# Altium schematic symbol library SCH_LIB.SchLib: 68 symbols
Pins are listed as number, name and electrical type; pins without a type are passive.

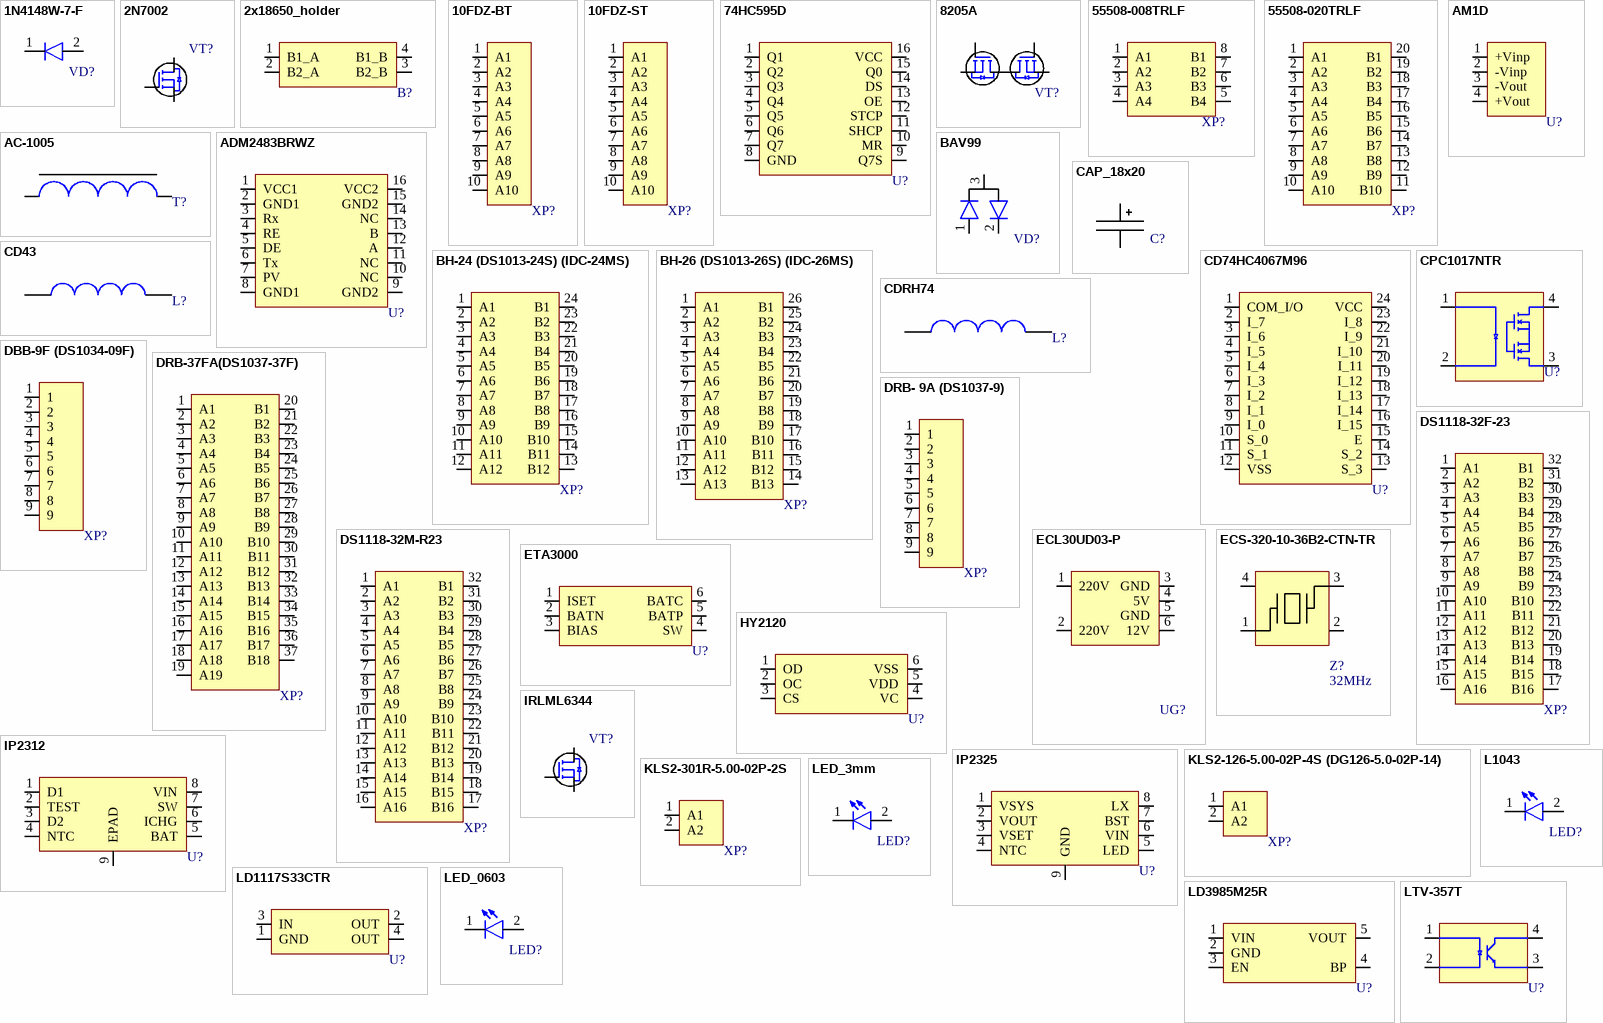
[diagram p0: symbols 1N4148W-7-F to LTV-357T]

## 1N4148W-7-F
designator VD?  (value not drawn)
Diodes - General Purpose, Power, Switching SURFACE MOUNT FAST SWITCHING DIODE; Manufacturer: Diodes Incorporated; Datasheet: https://www.diodes.com/assets/Datasheets/BAV16W_1N4148W.pdf; HelpURL: https://eu.mouser.com/ProductDetail/Diodes-Incorporated/1N4148W-7-F?qs=LHX0FizJzg7Ae9ZM8LTAWw%3D%3D; Package/Case: SOD-123; Product Category: Diodes; Value: 1N4148W-7-F
footprint SOD-123
pins: 1, 2

## 2N7002
designator VT?, comment 2N7002(NX7002AK)  (value not drawn)
MOSFET N-CHANNEL 60V 115mA; Manufacturer: Fairchild; Datasheet: https://eu.mouser.com/datasheet/2/308/NDS7002A_D-1522662.pdf; HelpURL: https://eu.mouser.com/ProductDetail/onsemi-Fairchild/2N7002?qs=0dwsXDNhqlz66WJJhrTFjQ%3D%3D; Package/Case: SOT-23; Product Category: MOSFET; Analogue: NX7002AK; Value: 2N7002
footprint SOT-23-3
pins: 1 (power), 2 (power), 3 (power)

## 2x18650_holder
designator B?  (value not drawn)
18650 battery holder; Datasheet: https://aliexpress.ru/item/32370231319.html?spm=a2g2w.favourites.mywishlist.8.12044aa670bhdZ&sku_id=57294681151; HelpURL: https://aliexpress.ru/item/32370231319.html?spm=a2g2w.favourites.mywishlist.8.12044aa670bhdZ&sku_id=57294681151; Product Category: Battery holders; Value: 2x18650_holder
footprint 2x18650_holder
pins: 1 B1_A, 2 B2_A, 3 B2_B, 4 B1_B

## 10FDZ-BT
designator XP?  (value not drawn)
The FDZ connector, a Zero Insertion Force / (ZIF) connector, was developed to connect / FPC and membrane switch leads. This / combination of features allows greater / freedom in internal wiring designs. No / force is required to insert the leads. Once / inserted, the leads are securely held and / locked by moving the slide. The contact is / double-sided to ensure greater reliability.; Manufacturer: JST; Datasheet: https://static.chipdip.ru/lib/060/DOC000060454.pdf; HelpURL: https://www.chipdip.ru/product/10fdz-bt; Product Category: Connectors; Value: 10FDZ-BT
footprint 10FDZ-BT
pins: 1 A1, 2 A2, 3 A3, 4 A4, 5 A5, 6 A6, 7 A7, 8 A8, 9 A9, 10 A10

## 10FDZ-ST
designator XP?  (value not drawn)
The FDZ connector, a Zero Insertion Force / (ZIF) connector, was developed to connect / FPC and membrane switch leads. This / combination of features allows greater / freedom in internal wiring designs. No / force is required to insert the leads. Once / inserted, the leads are securely held and / locked by moving the slide. The contact is / double-sided to ensure greater reliability.; Manufacturer: JST; Datasheet: https://static.chipdip.ru/lib/060/DOC000060454.pdf; HelpURL: https://www.chipdip.ru/product/10fdz-st; Product Category: Connectors; Value: 10FDZ-ST
footprint 10FDZ-ST
pins: 1 A1, 2 A2, 3 A3, 4 A4, 5 A5, 6 A6, 7 A7, 8 A8, 9 A9, 10 A10

## 74HC595D
designator U?  (value not drawn)
Counter Shift Registers; Manufacturer: Nexperia; Datasheet: https://eu.mouser.com/datasheet/2/916/74HC_HCT595-1371408.pdf; HelpURL: https://eu.mouser.com/ProductDetail/Nexperia/74HC595D118?qs=P62ublwmbi8l0ry%252BN2uyHg%3D%3D; Package/Case: SOIC-16; Product Category: Counter shift registers; Value: 74HC595D
footprint SOIC-16
pins: 1 Q1, 2 Q2, 3 Q3, 4 Q4, 5 Q5, 6 Q6, 7 Q7, 8 GND, 9 Q7S, 10 MR, 11 SHCP, 12 STCP, 13 OE, 14 DS, 15 Q0, 16 VCC (power)

## 8205A
designator VT?  (value not drawn)
MOSFET N-CHANNEL 20V 5A; Manufacturer: UMW; Datasheet: https://static.chipdip.ru/lib/303/DOC021303523.pdf; HelpURL: https://www.chipdip.by/product/8205a; Package/Case: SOT-23-6; Product Category: MOSFET; Value: 8205A
footprint SOT-23-6; pin to pad 2>2+5 5>2+5
pins: 1 (power), 2 (power), 3 (power), 4 (power), 5 (power), 6 (power)

## 55508-008TRLF
designator XP?  (value not drawn)
Board to Board, Receptacle, Surface Mount, Double row, 8 Positions, 2mm (0.079inch), Vertical.; Manufacturer: Amphenol FCI; Datasheet: https://cdn.amphenol-cs.com/media/wysiwyg/files/documentation/datasheet/boardwiretoboard/bwb_minitek2mm_receptacle.pdf; HelpURL: https://eu.mouser.com/ProductDetail/Amphenol-FCI/55508-008TRLF?qs=u4%252BeTlRBLCQJeJ23kDZ66A%3D%3D; Product Category: Connectors; Value: 55508-008TRLF
footprint 55508-008TRLF
pins: 1 A1, 2 A2, 3 A3, 4 A4, 5 B4, 6 B3, 7 B2, 8 B1

## 55508-020TRLF
designator XP?  (value not drawn)
Board to Board, Receptacle, Surface Mount, Double row, 20 Positions, 2mm (0.079inch), Vertical.; Manufacturer: Amphenol FCI; Datasheet: https://cdn.amphenol-cs.com/media/wysiwyg/files/documentation/datasheet/boardwiretoboard/bwb_minitek2mm_receptacle.pdf; HelpURL: https://eu.mouser.com/ProductDetail/Amphenol-FCI/55508-020TRLF?qs=u4%252BeTlRBLCTe691%252BtU6gFA%3D%3D; Product Category: Connectors; Value: 55508-020TRLF
footprint 55508-020TRLF
pins: 1 A1, 2 A2, 3 A3, 4 A4, 5 A5, 6 A6, 7 A7, 8 A8, 9 A9, 10 A10, 11 B10, 12 B9, 13 B8, 14 B7, 15 B6, 16 B5, 17 B4, 18 B3, 19 B2, 20 B1

## AC-1005
designator T?  (value not drawn)
Current Transformer, primary current: 5A; Manufacturer: Talema; Analogue: CST-1005(https://eu.mouser.com/datasheet/2/410/CST_1005-1892657.pdf); Datasheet: https://static.chipdip.ru/lib/884/DOC003884697.pdf; HelpURL: https://www.chipdip.ru/product/ac-1005; Product Category: Current transformers; Value: AC-1005
footprint AC-1005
pins: 1, 2

## ADM2483BRWZ
designator U?  (value not drawn)
Counter Shift Registers; Manufacturer: Analog Devices; Datasheet: https://static.chipdip.ru/lib/315/DOC011315784.pdf; HelpURL: https://www.chipdip.by/product/adm2483brwz-reel; Package/Case: SOIC-16; Product Category: Transceivers; Value: ADM2483BRWZ
footprint SOIC-16
pins: 1 VCC1, 2 GND1, 3 Rx, 4 RE, 5 DE, 6 Tx, 7 PV, 8 GND1, 9 GND2, 10 NC, 11 NC, 12 A, 13 B, 14 NC, 15 GND2, 16 VCC2 (power)

## AM1D
designator U?  (value not drawn)
DC-DC; Manufacturer: Aimtec; Datasheet: https://static.chipdip.ru/lib/744/DOC014744931.pdf; HelpURL: https://www.chipdip.by/product/am1d-0505sz; Package/Case: SIP; Product Category: Voltage regulators; Value: AM1D
footprint AM1D-0505SZ
pins: 1 +Vinp (power), 2 -Vinp (power), 3 -Vout (power), 4 +Vout (power)

## BAV99
designator VD?  (value not drawn)
High-speed switching diode; Manufacturer: Nexperia; Datasheet: https://eu.mouser.com/datasheet/2/916/BAV99_SER-1370693.pdf; HelpURL: https://eu.mouser.com/ProductDetail/Nexperia/BAV99235?qs=me8TqzrmIYWUP4h8SbZlfQ%3D%3D; Package/Case: SOT-23; Product Category: Diodes; Value: BAV99
footprint SOT-23-3
pins: 1, 2, 3

## BH-24 (DS1013-24S) (IDC-24MS)
designator XP?  (value not drawn)
Manufacturer: Connfly; Datasheet: https://static.chipdip.ru/lib/463/DOC002463525.pdf; HelpURL: https://www.chipdip.by/product/idc-24ms; Product Category: Connectors; Value: BH-24 (DS1013-24S) (IDC-24MS)
footprint BH-24 (DS1013-24S) (IDC-24MS)
pins: 1 A1, 2 A2, 3 A3, 4 A4, 5 A5, 6 A6, 7 A7, 8 A8, 9 A9, 10 A10, 11 A11, 12 A12, 13 B12, 14 B11, 15 B10, 16 B9, 17 B8, 18 B7, 19 B6, 20 B5, 21 B4, 22 B3, 23 B2, 24 B1

## BH-26 (DS1013-26S) (IDC-26MS)
designator XP?  (value not drawn)
Manufacturer: Connfly; Datasheet: https://static.chipdip.ru/lib/463/DOC002463525.pdf; HelpURL: https://www.chipdip.by/product/idc-26ms; Product Category: Connectors; Value: BH-26 (DS1013-26S) (IDC-26MS)
footprint BH-26 (DS1013-26S) (IDC-26MS)
pins: 1 A1, 2 A2, 3 A3, 4 A4, 5 A5, 6 A6, 7 A7, 8 A8, 9 A9, 10 A10, 11 A11, 12 A12, 13 A13, 14 B13, 15 B12, 16 B11, 17 B10, 18 B9, 19 B8, 20 B7, 21 B6, 22 B5, 23 B4, 24 B3, 25 B2, 26 B1

## CAP_18x20
designator C?  (value not drawn)
Aluminium Electrolytic Capacitors; Manufacturer: Vishay; Datasheet: https://www.vishay.com/docs/28499/172rlx.pdf; HelpURL: https://eu.mouser.com/ProductDetail/Vishay/MAL217255472E3?qs=sGAEpiMZZMvwFf0viD3Y3bXvgfG2gej7Mxr0TGrxzpUu%2FFwrHzVi9w%3D%3D; Package/Case: 18x20; Product Category: Aluminium Electrolytic Capacitors
footprint CAP 18x20
pins: 1, 2

## CD43
designator L?  (value not drawn)
SMD Power Inductor; Manufacturer: SUMIDA; Datasheet: https://products.sumida.com/products/pdf/CD43.pdf; HelpURL: https://aliexpress.ru/item/1005002090028747.html?sku_id=12000018707218161&spm=a2g2w.productlist.search_results.13.550c3fc1XziZsU; Product Category: Inductors
footprint CD43
pins: 1, 2

## CD74HC4067M96
designator U?  (value not drawn)
1 MHz, Low-Power Op Amp; Manufacturer: Texas Instruments; Datasheet: https://www.ti.com/general/docs/suppproductinfo.tsp?distId=26&gotoUrl=https://www.ti.com/lit/gpn/cd74hct4067; HelpURL: https://eu.mouser.com/ProductDetail/Texas-Instruments/CD74HC4067M96?qs=xFfolx0DHx0XT7d9xTTZBA%3D%3D; Package/Case: SOIC-24; Product Category: Multiplexers; Value: CD74HC4067M96
footprint SOIC-24
pins: 1 COM_I/O, 2 I_7, 3 I_6, 4 I_5, 5 I_4, 6 I_3, 7 I_2, 8 I_1, 9 I_0, 10 S_0, 11 S_1, 12 VSS (power), 13 S_3, 14 S_2, 15 E, 16 I_15, 17 I_14, 18 I_13, 19 I_12, 20 I_11, 21 I_10, 22 I_9, 23 I_8, 24 VCC (power)

## CDRH74
designator L?  (value not drawn)
SMD Power Inductor; Manufacturer: SUMIDA; Datasheet: https://radiokomponent.com.ua/pdf/trans/CDRH74.pdf; HelpURL: https://aliexpress.ru/item/1005004321960425.html?sku_id=12000028751500104&spm=a2g2w.productlist.search_results.7.529b6cc4mPaVds; Product Category: Inductors
footprint CDRH74
pins: 1, 2

## CPC1017NTR
designator U?  (value not drawn)
The CPC1017N is a miniature single-pole, / normally-open (1-Form-A) solid state relay in a / 4-pin SOP package that employs optically coupled / MOSFET technology to provide 1500Vrms of input / to output isolation.; Manufacturer: Littelfuse; Analogue: PRAB30S (KAQY214S); Datasheet: https://static.chipdip.ru/lib/529/DOC010529771.pdf; HelpURL: https://www.chipdip.by/product/cpc1017ntr; Package/Case: SOP-4; Product Category: Solid state relays; Value: CPC1017NTR
footprint SOP-4
pins: 1, 2, 3, 4

## DBB-9F (DS1034-09F)
designator XP?  (value not drawn)
Manufacturer: Connfly; Datasheet: https://static.chipdip.ru/lib/761/DOC000761659.pdf; HelpURL: https://www.chipdip.by/product/dbb-9f; Product Category: Connectors; Value: DBB-9F (DS1034-09F)
footprint DBB-9F (DS1034-09F)
pins: 1, 2, 3, 4, 5, 6, 7, 8, 9

## DRB-37FA(DS1037-37F)
designator XP?  (value not drawn)
Сonnector; Manufacturer: Connfly; Analogue: HARTING 09221326951(https://eu.mouser.com/ProductDetail/HARTING/09221326951?qs=Afqhj6cPmO9f0oVZo6yWiA%3D%3D); Datasheet: http://en.connfly.group/static/upload/file/pdf/DS1118.pdf; HelpURL: https://www.chipdip.by/product/din41612r-ds1118-32m-r23; Product Category: Connectors; Value: DRB-37FA(DS1037-37F)
footprint DRB-37FA(DS1037-37F)
pins: 1 A1, 2 A2, 3 A3, 4 A4, 5 A5, 6 A6, 7 A7, 8 A8, 9 A9, 10 A10, 11 A11, 12 A12, 13 A13, 14 A14, 15 A15, 16 A16, 17 A17, 18 A18, 19 A19, 20 B1, 21 B2, 22 B3, 23 B4, 24 B5, 25 B6, 26 B7, 27 B8, 28 B9, 29 B10, 30 B11, 31 B12, 32 B13, 33 B14, 34 B15, 35 B16, 36 B17, 37 B18

## DRB- 9A (DS1037-9)
designator XP?  (value not drawn)
Manufacturer: Connfly; Datasheet: https://static.chipdip.ru/lib/688/DOC012688837.pdf; HelpURL: https://www.chipdip.by/product/drb-9fa; Product Category: Connectors; Value: DRB- 9A (DS1037-9)
footprint DRB- 9A (DS1037-9)
pins: 1, 2, 3, 4, 5, 6, 7, 8, 9

## DS1118-32F-23
designator XP?  (value not drawn)
DIN 41612 Connector; Manufacturer: Connfly; Datasheet: https://static.chipdip.ru/lib/467/DOC001467857.pdf; HelpURL: https://www.chipdip.by/product/din41612-ds1118-32f-23; Product Category: Connectors; Value: DS1118-32F-23
footprint DS1118-32F-23
pins: 1 A1, 2 A2, 3 A3, 4 A4, 5 A5, 6 A6, 7 A7, 8 A8, 9 A9, 10 A10, 11 A11, 12 A12, 13 A13, 14 A14, 15 A15, 16 A16, 17 B16, 18 B15, 19 B14, 20 B13, 21 B12, 22 B11, 23 B10, 24 B9, 25 B8, 26 B7, 27 B6, 28 B5, 29 B4, 30 B3, 31 B2, 32 B1

## DS1118-32M-R23
designator XP?  (value not drawn)
DIN 41612 Connector; Manufacturer: Connfly; Analogue: HARTING 09221326951(https://eu.mouser.com/ProductDetail/HARTING/09221326951?qs=Afqhj6cPmO9f0oVZo6yWiA%3D%3D); Datasheet: http://en.connfly.group/static/upload/file/pdf/DS1118.pdf; HelpURL: https://www.chipdip.by/product/din41612r-ds1118-32m-r23; Product Category: Connectors; Value: DS1118-32M-R23
footprint DS1118-32M-R23
pins: 1 A1, 2 A2, 3 A3, 4 A4, 5 A5, 6 A6, 7 A7, 8 A8, 9 A9, 10 A10, 11 A11, 12 A12, 13 A13, 14 A14, 15 A15, 16 A16, 17 B16, 18 B15, 19 B14, 20 B13, 21 B12, 22 B11, 23 B10, 24 B9, 25 B8, 26 B7, 27 B6, 28 B5, 29 B4, 30 B3, 31 B2, 32 B1

## ECL30UD03-P
designator UG?  (value not drawn)
Switching Power Supplies AC/DC, DUAL, 30W, PCB MOUNT; Manufacturer: XP Power; Datasheet: https://www.xppower.com/portals/0/pdfs/SF_ECL30.pdf; HelpURL: https://eu.mouser.com/ProductDetail/XP-Power/ECL30UD03-P?qs=w%2Fv1CP2dgqp0UmTCbSDp0g%3D%3D; Product Category: Switching power supplies; Value: ECL30UD03-P
footprint ECL30-P (ECL30UD03-P)
pins: 1 220V, 2 220V, 3 GND (power), 4 5V, 5 GND, 6 12V

## ECS-320-10-36B2-CTN-TR
designator Z?  value 32MHz  (hidden comment: ECS-320-10-36B2-CTN-TR)
Crystal 32.000 MHz 10 pF +/-10 +/-20 -40 +85 C +/-2 ppm Max.; Manufacturer: ECS; Package/Case: 2520; HelpURL: https://eu.mouser.com/ProductDetail/ECS/ECS-320-10-36B2-CTN-TR?qs=QNEnbhJQKvbusIFiAH6chw%3D%3D; Temperature: -40...+85°C; Datasheet: https://eu.mouser.com/datasheet/2/122/ECX_2236B2-2400583.pdf; Product Category: Crystals
footprint OSC: 2520
pins: 1, 2 (power), 3, 4 (power)

## ETA3000
designator U?  (value not drawn)
Inductive cell balancer; Manufacturer: ETA; Datasheet: https://datasheetspdf.com/mobile/1424958/ETA/ETA3000/1; HelpURL: https://aliexpress.ru/item/1005002742533593.html?sku_id=12000021935942334; Package/Case: SOT-23-6; Product Category: Battery balancers; Value: ETA3000
footprint SOT-23-6
pins: 1 ISET, 2 BATN, 3 BIAS, 4 SW, 5 BATP, 6 BATC

## HY2120
designator U?  (value not drawn)
2-cell lithium-ion/lithium polymer rechargeable battery / protection; Manufacturer: HYCON; Datasheet: https://static.chipdip.ru/lib/671/DOC012671868.pdf; HelpURL: https://aliexpress.ru/item/32858079670.html?sku_id=65323825149&spm=a2g2w.productlist.search_results.5.6e4d5adf5VsdVe; Package/Case: SOT-23-6; Product Category: Battery protection; Value: HY2120
footprint SOT-23-6
pins: 1 OD, 2 OC, 3 CS, 4 VC, 5 VDD, 6 VSS

## IP2312
designator U?  (value not drawn)
1s charge module; Manufacturer: INJOINIC; Datasheet: https://datasheet.lcsc.com/lcsc/2304140030_INJOINIC-IP2312-4V35_C605433.pdf; HelpURL: https://aliexpress.ru/item/1005006314271382.html?spm=a2g2w.favourites.mywishlist.41.12044aa670bhdZ&sku_id=12000036725210626; Package/Case: ESOP-8; Product Category: Charge modules; Value: IP2312
footprint ESOP-8
pins: 1 D1, 2 TEST, 3 D2, 4 NTC, 5 BAT, 6 ICHG, 7 SW, 8 VIN, 9 EPAD

## IP2325
designator U?  (value not drawn)
2s charge Module; Manufacturer: INJOINIC; Datasheet: http://www.injoinic.com/wwwroot/uploads/files/20230913/d8e5944686d69fa501fe83e437133f8d.pdf; HelpURL: https://aliexpress.ru/item/1005005892683023.html?sku_id=12000034732384666; Package/Case: ESOP-8; Product Category: Charge modules; Value: IP2325
footprint ESOP-8
pins: 1 VSYS, 2 VOUT, 3 VSET, 4 NTC, 5 LED, 6 VIN, 7 BST, 8 LX, 9 GND

## IRLML6344
designator VT?  (value not drawn)
MOSFET N-CHANNEL 30V 5A; Manufacturer: Fairchild; Analogue: NX7002AK; Datasheet: https://static.chipdip.ru/lib/015/DOC024015069.pdf; HelpURL: https://eu.mouser.com/ProductDetail/onsemi-Fairchild/2N7002?qs=0dwsXDNhqlz66WJJhrTFjQ%3D%3D; Package/Case: SOT-23; Product Category: MOSFET; Value: IRLML6344
footprint SOT-23-3
pins: 1 (power), 2 (power), 3 (power)

## KLS2-126-5.00-02P-4S (DG126-5.0-02P-14)
designator XP?  (value not drawn)
Manufacturer: KLS; Datasheet: https://static.chipdip.ru/lib/507/DOC001507134.pdf; HelpURL: https://www.chipdip.by/product/kls2-126-5.00-02p-4s-dg126-5.0-02p-14; Product Category: Connectors; Value: KLS2-126-5.00-02P-4S (DG126-5.0-02P-14)
footprint KLS2-126-5.00-02P-4S (DG126-5.0-02P-14)
pins: 1 A1, 2 A2

## KLS2-301R-5.00-02P-2S
designator XP?  (value not drawn)
Manufacturer: KLS electronic co ltd; Analogue: DG301R-5.0-02P-12; Datasheet: https://static.chipdip.ru/lib/507/DOC001507150.pdf; HelpURL: https://www.chipdip.by/product/kls2-301r-5.00-02p-2s-dg301r-5.0-02p-12; Product Category: Connectors; Value: KLS2-301R-5.00-02P-2S
footprint KLS2-301R-5.00-02P-2S
pins: 1 A1, 2 A2

## L1043
designator LED?  (value not drawn)
Manufacturer: Kingbright; Datasheet: https://eu.mouser.com/datasheet/2/216/wp1043srd-1173495.pdf; HelpURL: https://eu.mouser.com/ProductDetail/Kingbright/L1043SRD?qs=fKJLI%2FsxXOeuHTGKDg%2F2bg%3D%3D; Product Category: LED; Value: L1043
footprint L1043
pins: 1, 2

## LD1117S33CTR
designator U?  (value not drawn)
LDO Voltage Regulator; Manufacturer: STMicroelectronics; Datasheet: https://eu.mouser.com/datasheet/2/389/cd00000544-1795431.pdf; HelpURL: https://eu.mouser.com/ProductDetail/STMicroelectronics/LD1117S33CTR?qs=8u%2FLf1IQwKF9meFZLHfRog%3D%3D; Package/Case: SOT-223-3; Product Category: Voltage regulators; Value: LD1117S33CTR
footprint SOT-223-3
pins: 1 GND, 2 OUT, 3 IN, 4 OUT

## LD3985M25R
designator U?, comment LD1117S33CTR  (value not drawn)
Voltage Regulator; Manufacturer: STMicroelectronics; Value: LD3985M25R; Datasheet: https://static.chipdip.ru/lib/363/DOC011363081.pdf; HelpURL: https://www.chipdip.by/product/ld3985m25r; Package/Case: SOT-23-5; Product Category: Voltage regulators
footprint SOT-23-5
pins: 1 VIN, 2 GND (power), 3 EN, 4 BP, 5 VOUT (power)

## LED_3mm
designator LED?  (value not drawn)
Manufacturer: G-nor; Datasheet: https://static.chipdip.ru/lib/402/DOC014402556.pdf; HelpURL: https://www.chipdip.by/product/gnl-3012gd-green; Product Category: LED; Value: LED_3mm
footprint LED_3mm
pins: 1, 2

## LED_0603
designator LED?  (value not drawn)
Product Category: LED; Value: LED_0603
footprint LED_0603
pins: 1, 2

## LTV-357T
designator U?  (value not drawn)
Transistor Output Optocouplers Optocoupler Phototrans; Manufacturer: Lite-On; Datasheet: https://eu.mouser.com/datasheet/2/239/LTV-357T_series_RevP-1543500.pdf; HelpURL: https://eu.mouser.com/ProductDetail/Lite-On/LTV-357T?qs=IhlP1sn3qi5zhJzi4zUCwQ%3D%3D; Package/Case: SMD-4; Product Category: Optocouplers; Value: LTV-357T
footprint SMD-4
pins: 1, 2, 3, 4

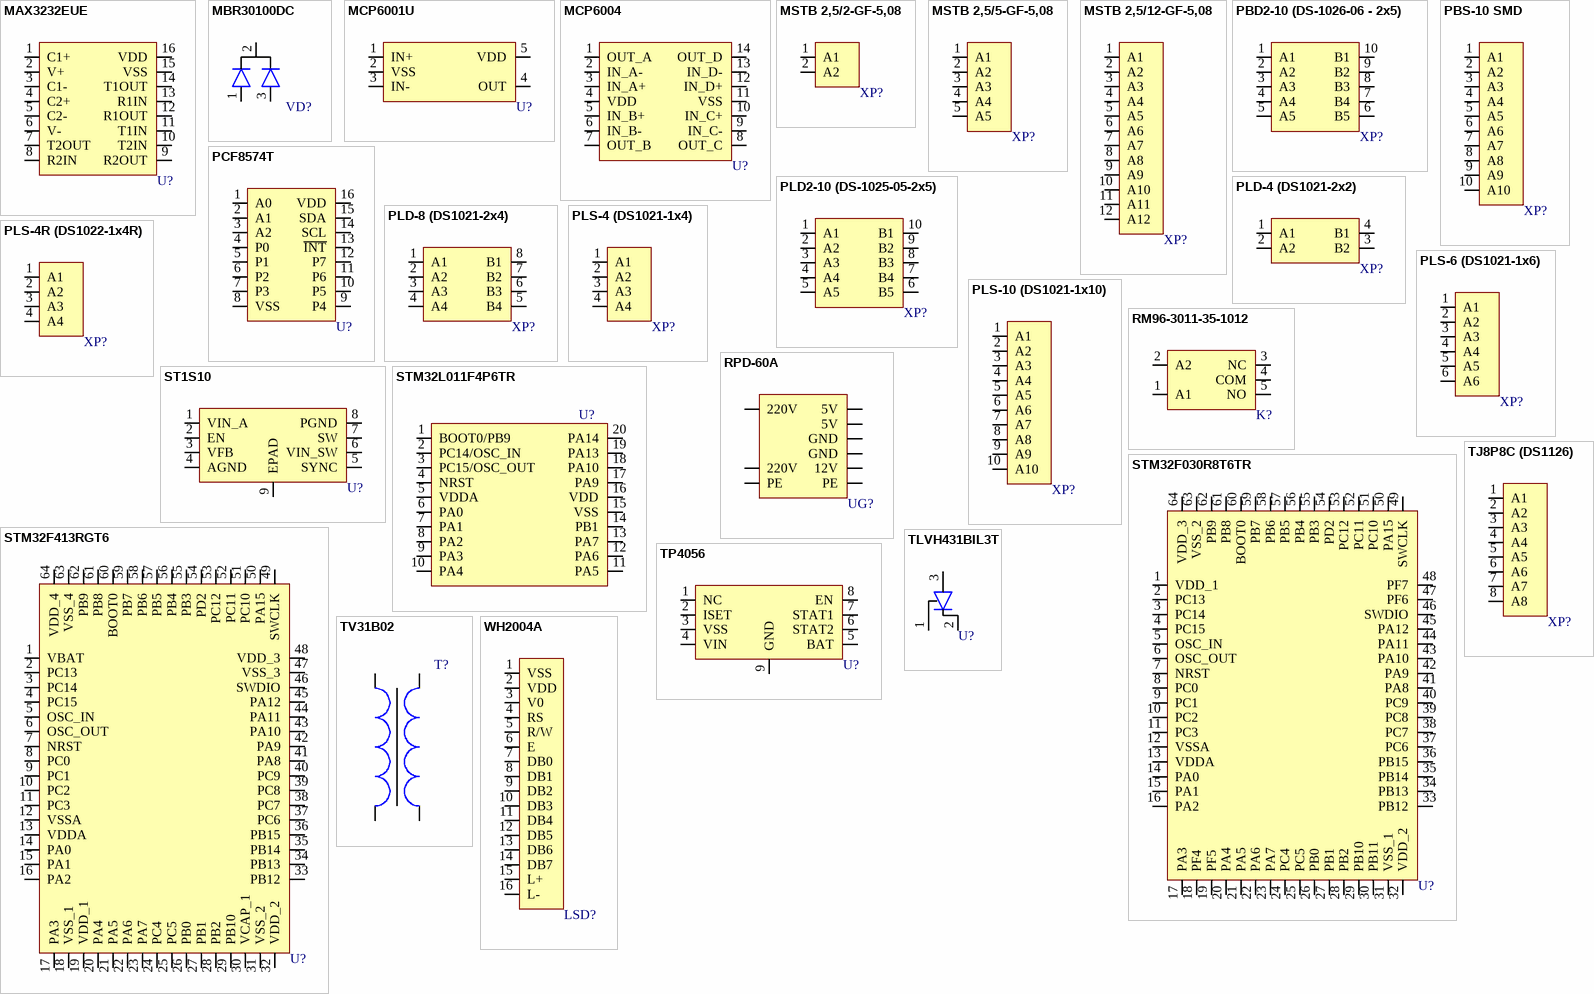
[diagram p1: symbols MAX3232EUE to WH2004A]

## MAX3232EUE
designator U?  (value not drawn)
IC TRANSCEIVER FULL 2/2 16TSSOP; Manufacturer: Maxim Integrated; Datasheet: https://www.analog.com/media/en/technical-documentation/data-sheets/max3222-max3241.pdf; HelpURL: https://www.digikey.com/en/products/detail/analog-devices-inc-maxim-integrated/MAX3232EUE/1513085; Package/Case: TSSOP-16; Product Category: Transceivers; Value: MAX3232EUE
footprint TSSOP-16
pins: 1 C1+, 2 V+, 3 C1-, 4 C2+, 5 C2-, 6 V-, 7 T2OUT, 8 R2IN, 9 R2OUT, 10 T2IN, 11 T1IN, 12 R1OUT, 13 R1IN, 14 T1OUT, 15 VSS, 16 VDD

## MBR30100DC
designator VD?  (value not drawn)
Dual center tap Schottky rectifier suited for switch / mode power supply and high frequency DC to / DC converters. Packaged either in TO-220AB, / TO-247, or D²PAK, this device is especially / intended for use in low voltage, high frequency / inverters, free wheeling and polarity protection / applications.; Manufacturer: YFW; Analogue: STPS3045CG-TR; Datasheet: https://static.chipdip.ru/lib/395/DOC026395362.pdf; HelpURL: https://www.chipdip.by/product/mbr30100dc; Package/Case: D2PAK/TO-263AB(2 Leads+Tab); Product Category: Diodes; Value: MBR30100DC
footprint D2PAK/TO-263AB
pins: 1, 2, 3

## MCP6001U
designator U?  (value not drawn)
1 MHz, Low-Power Op Amp; Manufacturer: Microchip; Datasheet: https://eu.mouser.com/ProductDetail/Microchip-Technology-Atmel/MCP6004-I-SL?qs=n%2FfJlMG9rCZ2%2F%2FCryvZ52w%3D%3D; HelpURL: https://eu.mouser.com/ProductDetail/Microchip-Technology-Atmel/MCP6001UT-I-OT?qs=Sez7gRs8XSU2iw24kVuIOw%3D%3D; Package/Case: SOT-23-5; Product Category: Operational amplifiers; Value: MCP6001U
footprint SOT-23-5
pins: 1 IN+, 2 VSS (power), 3 IN-, 4 OUT, 5 VDD (power)

## MCP6004
designator U?  (value not drawn)
1 MHz, Low-Power Op Amp; Manufacturer: Microchip; Datasheet: https://eu.mouser.com/ProductDetail/Microchip-Technology-Atmel/MCP6004-I-SL?qs=n%2FfJlMG9rCZ2%2F%2FCryvZ52w%3D%3D; HelpURL: https://eu.mouser.com/ProductDetail/Microchip-Technology-Atmel/MCP6004-I-SL?qs=n%2FfJlMG9rCZ2%2F%2FCryvZ52w%3D%3D; Package/Case: SOIC-14; Product Category: Operational amplifiers; Value: MCP6004
footprint SOIC-14
pins: 1 OUT_A, 2 IN_A-, 3 IN_A+, 4 VDD (power), 5 IN_B+, 6 IN_B-, 7 OUT_B, 8 OUT_C, 9 IN_C-, 10 IN_C+, 11 VSS (power), 12 IN_D+, 13 IN_D-, 14 OUT_D

## MSTB 2,5/2-GF-5,08
designator XP?  (value not drawn)
Surface Mount, Single row, 2 Positions, 5.08mm; Manufacturer: Phoenix contact; Datasheet: https://www.phoenixcontact.com/ru-pc/produkty/korpusnaa-cast-dla-pecatnyh-plat-mstb-25-2-gf-508-1776508; HelpURL: https://www.phoenixcontact.com/ru-pc/produkty/korpusnaa-cast-dla-pecatnyh-plat-mstb-25-2-gf-508-1776508; Product Category: Connectors; Value: MSTB 2,5/2-GF-5,08
footprint MSTB 2,5/2-GF-5,08
pins: 1 A1, 2 A2

## MSTB 2,5/5-GF-5,08
designator XP?  (value not drawn)
Surface Mount, Single row, 5 Positions, 5.08mm; Manufacturer: Phoenix contact; Analogue: 2EDGRM-5.08(http://xn--e1agecchai.xn--p1ai/plug-in/416/7277.html); Datasheet: https://www.phoenixcontact.com/product/pdf/api/v1/MTc3NjUzNw?_realm=pc&_locale=ru-PC&blocks=commercial-data%2Ctechnical-data%2Cdrawings%2Capprovals%2Cclassifications%2Cenvironmental-compliance-data%2Call-accessories; HelpURL: https://www.phoenixcontact.com/ru-pc/produkty/korpusnaa-cast-dla-pecatnyh-plat-mstb-25-5-gf-508-1776537; Product Category: Connectors; Value: MSTB 2,5/5-GF-5,08
footprint MSTB 2,5/5-GF-5,08
pins: 1 A1, 2 A2, 3 A3, 4 A4, 5 A5

## MSTB 2,5/12-GF-5,08
designator XP?  (value not drawn)
Surface Mount, Single row, 12 Positions, 5.08mm; Manufacturer: Phoenix contact; Datasheet: https://www.phoenixcontact.com/ru-pc/produkty/korpusnaa-cast-dla-pecatnyh-plat-mstb-25-12-gf-508-1776605; HelpURL: https://www.phoenixcontact.com/ru-pc/produkty/korpusnaa-cast-dla-pecatnyh-plat-mstb-25-12-gf-508-1776605; Product Category: Connectors; Value: MSTB 2,5/12-GF-5,08
footprint MSTB 2,5/12-GF-5,08
pins: 1 A1, 2 A2, 3 A3, 4 A4, 5 A5, 6 A6, 7 A7, 8 A8, 9 A9, 10 A10, 11 A11, 12 A12

## PBD2-10 (DS-1026-06 - 2x5)
designator XP?  (value not drawn)
Board to Board, Surface Mount, Double row, 10 Positions, 2mm, Vertical.; Manufacturer: Connfly; Datasheet: https://static.chipdip.ru/lib/226/DOC000226968.pdf; HelpURL: https://www.chipdip.by/product/pbd2-20; Product Category: Connectors; Value: PBD2-10 (DS-1026-06 - 2x5)
footprint PBD2-10 (DS-1026-06 - 2x5)
pins: 1 A1, 2 A2, 3 A3, 4 A4, 5 A5, 6 B5, 7 B4, 8 B3, 9 B2, 10 B1

## PBS-10 SMD
designator XP?  (value not drawn)
Board to Board, Surface Mount, Single row, 10 Positions, 2.54mm, Vertical.; Datasheet: https://aliexpress.ru/item/4000929582394.html?spm=5261.ProductManageOnline.0.0.7bae4edfpY9ym0&gatewayAdapt=glo2rus&sku_id=10000011270754747; HelpURL: https://aliexpress.ru/item/4000929582394.html?spm=5261.ProductManageOnline.0.0.7bae4edfpY9ym0&gatewayAdapt=glo2rus&sku_id=10000011270754747; Product Category: Connectors; Value: PBS-10 SMD
footprint PBS-10 SMD
pins: 1 A1, 2 A2, 3 A3, 4 A4, 5 A5, 6 A6, 7 A7, 8 A8, 9 A9, 10 A10

## PCF8574T
designator U?  (value not drawn)
1 MHz, Low-Power Op Amp; Manufacturer: NXP; Datasheet: https://eu.mouser.com/datasheet/2/302/PCF8574_PCF8574A-1127673.pdf; HelpURL: https://eu.mouser.com/ProductDetail/NXP-Semiconductors/PCF8574T-3518?qs=LOCUfHb8d9srwcgHHpXqQw%3D%3D; Package/Case: SOIC-16; Product Category: I/O expanders; Value: PCF8574T
footprint SOIC-16
pins: 1 A0, 2 A1, 3 A2, 4 P0, 5 P1, 6 P2, 7 P3, 8 VSS (power), 9 P4, 10 P5, 11 P6, 12 P7, 13 ~{INT}, 14 SCL, 15 SDA, 16 VDD (power)

## PLD2-10 (DS-1025-05-2x5)
designator XP?  (value not drawn)
Board to Board, Surface Mount, Double row, 10 Positions, 2mm, Vertical.; Manufacturer: Connfly; Datasheet: https://static.chipdip.ru/lib/227/DOC000227161.pdf; HelpURL: https://www.chipdip.by/product/pld2-40; Product Category: Connectors; Value: PLD2-10 (DS-1025-05-2x5)
footprint PLD2-10 (DS-1025-05-2x5)
pins: 1 A1, 2 A2, 3 A3, 4 A4, 5 A5, 6 B5, 7 B4, 8 B3, 9 B2, 10 B1

## PLD-4 (DS1021-2x2)
designator XP?  (value not drawn)
Board to Board, Surface Mount, Double row, 4 Positions, 2.5mm, Vertical.; Manufacturer: Connfly; Datasheet: https://static.chipdip.ru/lib/977/DOC005977245.pdf; HelpURL: https://www.chipdip.by/product/pld-10; Product Category: Connectors; Value: PLD-4 (DS1021-2x2)
footprint PLD-4 (DS1021-2x2) (PLD-4(DS1021-2x2))
pins: 1 A1, 2 A2, 3 B2, 4 B1

## PLD-8 (DS1021-2x4)
designator XP?, comment PLD-8 (DS1021-2x4  (value not drawn)
Board to Board, Surface Mount, Double row, 8 Positions, 2.5mm, Vertical.; Manufacturer: Connfly; Value: PLD-8 (DS1021-2x4); Datasheet: https://static.chipdip.ru/lib/977/DOC005977245.pdf; HelpURL: https://www.chipdip.by/product/pld-10; Product Category: Connectors
footprint PLD-8 (DS1021-2x4) (PLD-8(DS1021-2x4))
pins: 1 A1, 2 A2, 3 A3, 4 A4, 5 B4, 6 B3, 7 B2, 8 B1

## PLS-4 (DS1021-1x4)
designator XP?  (value not drawn)
Board to Board, Surface Mount, Single row, 4 Positions, 2.54mm, Vertical.; Manufacturer: Connfly; Datasheet: https://static.chipdip.ru/lib/977/DOC005977245.pdf; HelpURL: https://www.chipdip.by/product/pls-4; Product Category: Connectors; Value: PLS-4 (DS1021-1x4)
footprint PLS-4 (DS1021-1x4)
pins: 1 A1, 2 A2, 3 A3, 4 A4

## PLS-4R (DS1022-1x4R)
designator XP?  (value not drawn)
Board to Board, Surface Mount, Single row, 4 Positions, 2.54mm, Angle.; Manufacturer: Connfly; Datasheet: https://static.chipdip.ru/lib/977/DOC005977245.pdf; HelpURL: https://www.chipdip.by/product/pls-4r; Product Category: Connectors; Value: PLS-4R (DS1022-1x4R)
footprint PLS-4R (DS1022-1x4R)
pins: 1 A1, 2 A2, 3 A3, 4 A4

## PLS-6 (DS1021-1x6)
designator XP?  (value not drawn)
Board to Board, Surface Mount, Single row, 6 Positions, 2.54mm, Vertical.; Manufacturer: Connfly; Datasheet: https://static.chipdip.ru/lib/977/DOC005977245.pdf; HelpURL: https://www.chipdip.by/product/pls-6; Product Category: Connectors; Value: PLS-6 (DS1021-1x6)
footprint PLS-6 (DS1021-1x6)
pins: 1 A1, 2 A2, 3 A3, 4 A4, 5 A5, 6 A6

## PLS-10 (DS1021-1x10)
designator XP?  (value not drawn)
Board to Board, Surface Mount, Single row, 10 Positions, 2.54mm, Vertical.; Manufacturer: Connfly; Datasheet: https://static.chipdip.ru/lib/977/DOC005977245.pdf; HelpURL: https://www.chipdip.by/product/pls-6; Product Category: Connectors; Value: PLS-10 (DS1021-1x10)
footprint PLS-10 (DS1021-1x10) (PLS-6 (DS1021-1x6))
pins: 1 A1, 2 A2, 3 A3, 4 A4, 5 A5, 6 A6, 7 A7, 8 A8, 9 A9, 10 A10

## RM96-3011-35-1012
designator K?  (value not drawn)
Relay 12V DC; 8А; 8A/250ВAC;; Manufacturer: Relpol; Datasheet: https://www.tme.eu/Document/00f3bdd8399fa4342821d33e99da3c32/RM96_EN.pdf; HelpURL: https://www.tme.eu/ru/details/rm96-3011-35-1012/rele-elektromagn-miniatiurnye/relpol/; Product Category: Relays; Value: RM96-3011-35-1012
footprint RM96
pins: 1 A1, 2 A2, 3 NC, 4 COM, 5 NO

## RPD-60A
designator UG?  (value not drawn)
Switching Power Supplies 49W 5V/5A 12V/2A; Manufacturer: MEAN WELL; Datasheet: https://meanwell.by/datasheet/istochniki-pitaniya/pdf-41408.pdf; HelpURL: https://eu.mouser.com/ProductDetail/MEAN-WELL/RPD-60A?qs=V9a8iPeg90yJhi69srjWpw%3D%3D; Product Category: Switching Power Supplies; Value: RPD-60A
footprint RPD-60A
pins: 1 220V, 2 220V, 3 5V, 4 5V, 5 GND (power), 6 GND, 7 12V, 8 PE, 9 PE

## ST1S10
designator U?  (value not drawn)
Step-down current mode PWM regulator; Manufacturer: STMicroelectronics; Datasheet: https://static.chipdip.ru/lib/421/DOC025421412.pdf; HelpURL: https://www.chipdip.by/product/st1s10phr; Package/Case: ESOP-8; Product Category: PWM regulators; Value: ST1S10
footprint ESOP-8
pins: 1 VIN_A, 2 EN, 3 VFB, 4 AGND, 5 SYNC, 6 VIN_SW, 7 SW, 8 PGND, 9 EPAD

## STM32F030R8T6TR
designator U?  (value not drawn)
MCU Mainstream Arm Cortex-M0 Value line MCU 64 Kbytes of Flash , 48 MHz CPU; Manufacturer: STMicroelectronics; Datasheet: https://www.st.com/resource/en/datasheet/stm32f030r8.pdf; HelpURL: https://eu.mouser.com/ProductDetail/STMicroelectronics/STM32F030R8T6TR?qs=s5SkPsIz10%252B%252B1w15QiyTpQ%3D%3D; Package/Case: LQFP-64; Product Category: Microcontrollers; Value: STM32F030R8T6TR
footprint LQFP-64
pins: 1 VDD_1 (power), 2 PC13, 3 PC14, 4 PC15, 5 OSC_IN, 6 OSC_OUT, 7 NRST, 8 PC0, 9 PC1, 10 PC2, 11 PC3, 12 VSSA (power), 13 VDDA (power), 14 PA0, 15 PA1, 16 PA2, 17 PA3, 18 PF4, 19 PF5, 20 PA4, 21 PA5, 22 PA6, 23 PA7, 24 PC4, 25 PC5, 26 PB0, 27 PB1, 28 PB2, 29 PB10, 30 PB11, 31 VSS_1 (power), 32 VDD_2 (power), 33 PB12, 34 PB13, 35 PB14, 36 PB15, 37 PC6, 38 PC7, 39 PC8, 40 PC9, 41 PA8, 42 PA9, 43 PA10, 44 PA11, 45 PA12, 46 SWDIO, 47 PF6, 48 PF7, 49 SWCLK, 50 PA15, 51 PC10, 52 PC11, 53 PC12, 54 PD2, 55 PB3, 56 PB4, 57 PB5, 58 PB6, 59 PB7, 60 BOOT0, 61 PB8, 62 PB9, 63 VSS_2 (power), 64 VDD_3 (power)

## STM32F413RGT6
designator U?  (value not drawn)
ARM Microcontrollers - MCU High-performance access line, Arm Cortex-M4 core DSP & FPU, 1 MByte of Flash 100; Manufacturer: STMicroelectronics; Datasheet: https://eu.mouser.com/datasheet/2/389/stm32f413cg-1851205.pdf; HelpURL: https://eu.mouser.com/ProductDetail/STMicroelectronics/STM32F413RGT6?qs=FNcb6ahWXRyREY%252BFzgYY7A%3D%3D; Package/Case: LQFP-64; Product Category: Microcontrollers; Value: STM32F413RGT6
footprint LQFP-64
pins: 1 VBAT, 2 PC13, 3 PC14, 4 PC15, 5 OSC_IN, 6 OSC_OUT, 7 NRST, 8 PC0, 9 PC1, 10 PC2, 11 PC3, 12 VSSA, 13 VDDA, 14 PA0, 15 PA1, 16 PA2, 17 PA3, 18 VSS_1, 19 VDD_1, 20 PA4, 21 PA5, 22 PA6, 23 PA7, 24 PC4, 25 PC5, 26 PB0, 27 PB1, 28 PB2, 29 PB10, 30 VCAP_1, 31 VSS_2, 32 VDD_2, 33 PB12, 34 PB13, 35 PB14, 36 PB15, 37 PC6, 38 PC7, 39 PC8, 40 PC9, 41 PA8, 42 PA9, 43 PA10, 44 PA11, 45 PA12, 46 SWDIO, 47 VSS_3, 48 VDD_3, 49 SWCLK, 50 PA15, 51 PC10, 52 PC11, 53 PC12, 54 PD2, 55 PB3, 56 PB4, 57 PB5, 58 PB6, 59 PB7, 60 BOOT0, 61 PB8, 62 PB9, 63 VSS_4, 64 VDD_4

## STM32L011F4P6TR
designator U?  (value not drawn)
Manufacturer: STMicroelectronics; Datasheet: https://static.chipdip.ru/lib/696/DOC011696872.pdf; HelpURL: https://www.chipdip.by/product0/8007122304; Package/Case: TSSOP-20; Product Category: Microcontrollers; Value: STM32L011F4P6TR
footprint TSSOP-20
pins: 1 BOOT0/PB9, 2 PC14/OSC_IN, 3 PC15/OSC_OUT, 4 NRST, 5 VDDA (power), 6 PA0, 7 PA1, 8 PA2, 9 PA3, 10 PA4, 11 PA5, 12 PA6, 13 PA7, 14 PB1, 15 VSS (power), 16 VDD (power), 17 PA9, 18 PA10, 19 PA13, 20 PA14

## TJ8P8C (DS1126)
designator XP?  (value not drawn)
Ethernet connector; Manufacturer: Connfly; Datasheet: https://static.chipdip.ru/lib/407/DOC004407201.pdf; HelpURL: https://www.chipdip.by/product/ds1126; Product Category: Connectors; Value: TJ8P8C (DS1126)
footprint TJ8P8C (DS1126)
pins: 1 A1, 2 A2, 3 A3, 4 A4, 5 A5, 6 A6, 7 A7, 8 A8

## TLVH431BIL3T
designator U?  (value not drawn)
Voltage References 1.24V to 18V Prog Shunt Ref 100uA 60mA; Manufacturer: STMicroelectronics; Datasheet: https://eu.mouser.com/datasheet/2/389/dm00057412-1797844.pdf; HelpURL: https://eu.mouser.com/ProductDetail/STMicroelectronics/TLVH431BIL3T?qs=NC%2FuX8ipg1S4rbg4USQCPA%3D%3D; Package/Case: SOT-23; Product Category: Voltage References; Value: TLVH431BIL3T
footprint SOT-23-3
pins: 1 (power), 2 (power), 3 (power)

## TP4056
designator U?  (value not drawn)
1s charge module; Manufacturer: UMW; Datasheet: https://static.chipdip.ru/lib/848/DOC018848830.pdf; HelpURL: https://www.chipdip.by/product/tp4056-umw; Package/Case: ESOP-8; Product Category: Charge modules; Value: TP4056
footprint ESOP-8
pins: 1 NC, 2 ISET, 3 VSS, 4 VIN, 5 BAT, 6 STAT2, 7 STAT1, 8 EN, 9 GND

## TV31B02
designator T?  (value not drawn)
Current-type Voltage Transformer; Manufacturer: YUANXING; Analogue: ZMPT101B(https://5nrorwxhmqqijik.leadongcdn.com/ZMPT101B+specification-aidijBqoKomRilSqqokpjkp.pdf); Datasheet: https://www.yuanxing.net/pdf/current%20type%20voltage%20transformers.pdf; Product Category: Current-type Voltage Transformer; Value: TV31B02
footprint TV31B02
pins: 1, 2, 3, 4

## WH2004A
designator LSD?  (value not drawn)
LCD Character Display  20x4; Manufacturer: Winstar; Datasheet: https://www.winstar.com.tw/uploads/files/e97d4fb1a675762f600be546831f7c7f.pdf; HelpURL: https://www.winstar.com.tw/ru/products/character-lcd-display-module/wh2004a.html; Product Category: LCD; Value: WH2004A
footprint WH2004A
pins: 1 VSS (power), 2 VDD (power), 3 V0, 4 RS, 5 R/W, 6 E, 7 DB0, 8 DB1, 9 DB2, 10 DB3, 11 DB4, 12 DB5, 13 DB6, 14 DB7, 15 L+, 16 L-